# EAGLE library part XR33202 (library graftel-internal-ic)
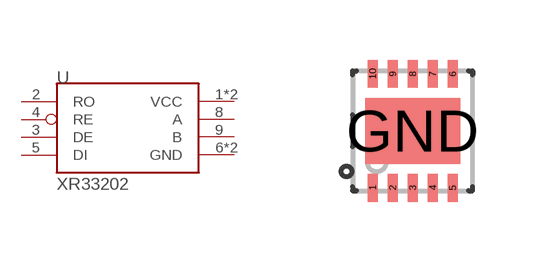
[diagram p48: symbol with the pads of DFN3X3; footprint DFN3X3]

Designator prefix U

## XR33202  [DFN3X3]
1  VCC
2  RO
3  DE
4  RE
5  DI
6  GND
8  A
9  B
10  VCC
GND  GND

## Footprint DFN3X3 (pad centres in mm)
smd 0.25 x 0.7: 1 -1,-1.425; 2 -0.5,-1.425; 3 0,-1.425; 4 0.5,-1.425; 5 1,-1.425; 6 1,1.425; 7 0.5,1.425; 8 0,1.425; 9 -0.5,1.425; 10 -1,1.425
smd 2.38 x 1.65: GND 0,0